# Altium integrated library ESQ-108-12-T-S.IntLib: 1 symbol
Pins are listed as number, name and electrical type; pins without a type are passive.

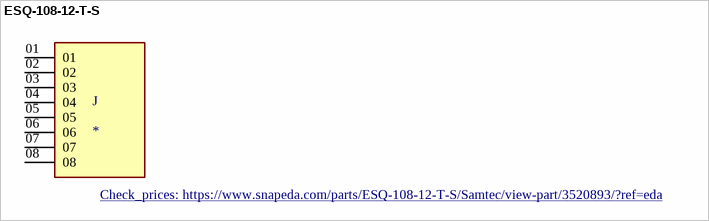
[diagram p0: symbol ESQ-108-12-T-S]

## ESQ-108-12-T-S
designator J
Conn Elevated Socket SKT 8 POS 2.54mm Solder ST Top Entry Thru-Hole Tube; MP: ESQ-108-12-T-S; MF: Samtec; Price: None; SnapEDA_Link: https://www.snapeda.com/parts/ESQ-108-12-T-S/Samtec/view-part/3520893/?ref=snap; Package: None; Toby_UK-Purchase-URL: https://snapeda.com/shop?store=Toby+UK&id=3520893; Value: *; Availability: Bad; Check_prices: https://www.snapeda.com/parts/ESQ-108-12-T-S/Samtec/view-part/3520893/?ref=eda
footprint SAMTEC_ESQ-108-12-T-S
pins: 01, 02, 03, 04, 05, 06, 07, 08